# Altium integrated library WE-EHPI Energy Harvesting Coupled Inductor.IntLib: 3 symbols
Pins are listed as number, name and electrical type; pins without a type are passive.

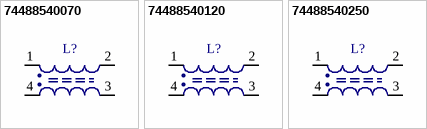
[diagram p0: symbols 74488540070 to 74488540250]

## 74488540070
designator L?
Energy Harvesting Coupled Inductor,SMD, WE-EHPI, L=7.5 µH; PartNumber: 74488540070; Inductance: 7.5 µH; PackageReference: WE-EHPI 5838; ComponentLink1Description: Manufacturer URL; ComponentLink1URL: http://www.we-online.com; ComponentLink2Description: Datasheet; ComponentLink2URL: http://katalog.we-online.de/pbs/datasheet/74488540070.pdf
footprint WE-EHPI 5838 (Power Inductor 4-Leads, SMD, Body 6.0 x 6.0mm)
pins: 1, 2, 3, 4

## 74488540120
designator L?
Energy Harvesting Coupled Inductor,SMD, WE-EHPI, L=13.0 µH; PartNumber: 74488540120; Inductance: 13.0 µH; PackageReference: WE-EHPI 5838; ComponentLink1Description: Manufacturer URL; ComponentLink1URL: http://www.we-online.com; ComponentLink2Description: Datasheet; ComponentLink2URL: http://katalog.we-online.de/pbs/datasheet/74488540120.pdf
footprint WE-EHPI 5838 (Power Inductor 4-Leads, SMD, Body 6.0 x 6.0mm)
pins: 1, 2, 3, 4

## 74488540250
designator L?
Energy Harvesting Coupled Inductor,SMD, WE-EHPI, L=25.0 µH; PartNumber: 74488540250; Inductance: 25.0 µH; PackageReference: WE-EHPI 5838; ComponentLink1Description: Manufacturer URL; ComponentLink1URL: http://www.we-online.com; ComponentLink2Description: Datasheet; ComponentLink2URL: http://katalog.we-online.de/pbs/datasheet/74488540250.pdf
footprint WE-EHPI 5838 (Power Inductor 4-Leads, SMD, Body 6.0 x 6.0mm)
pins: 1, 2, 3, 4